# Altium footprint library Papilio_DUO.PcbLib: 39 footprints (part 2 of 3)
Each footprint in its own frame and in the unit in brackets; x right, y up, seen from the top. Pads: shape width x height; smd on the part's side, far side on the other; paste and mask are expansions set on the pad; w line width, h text height; cw(c..) or ccw(c..) is an arc to the next point about the centre after c.
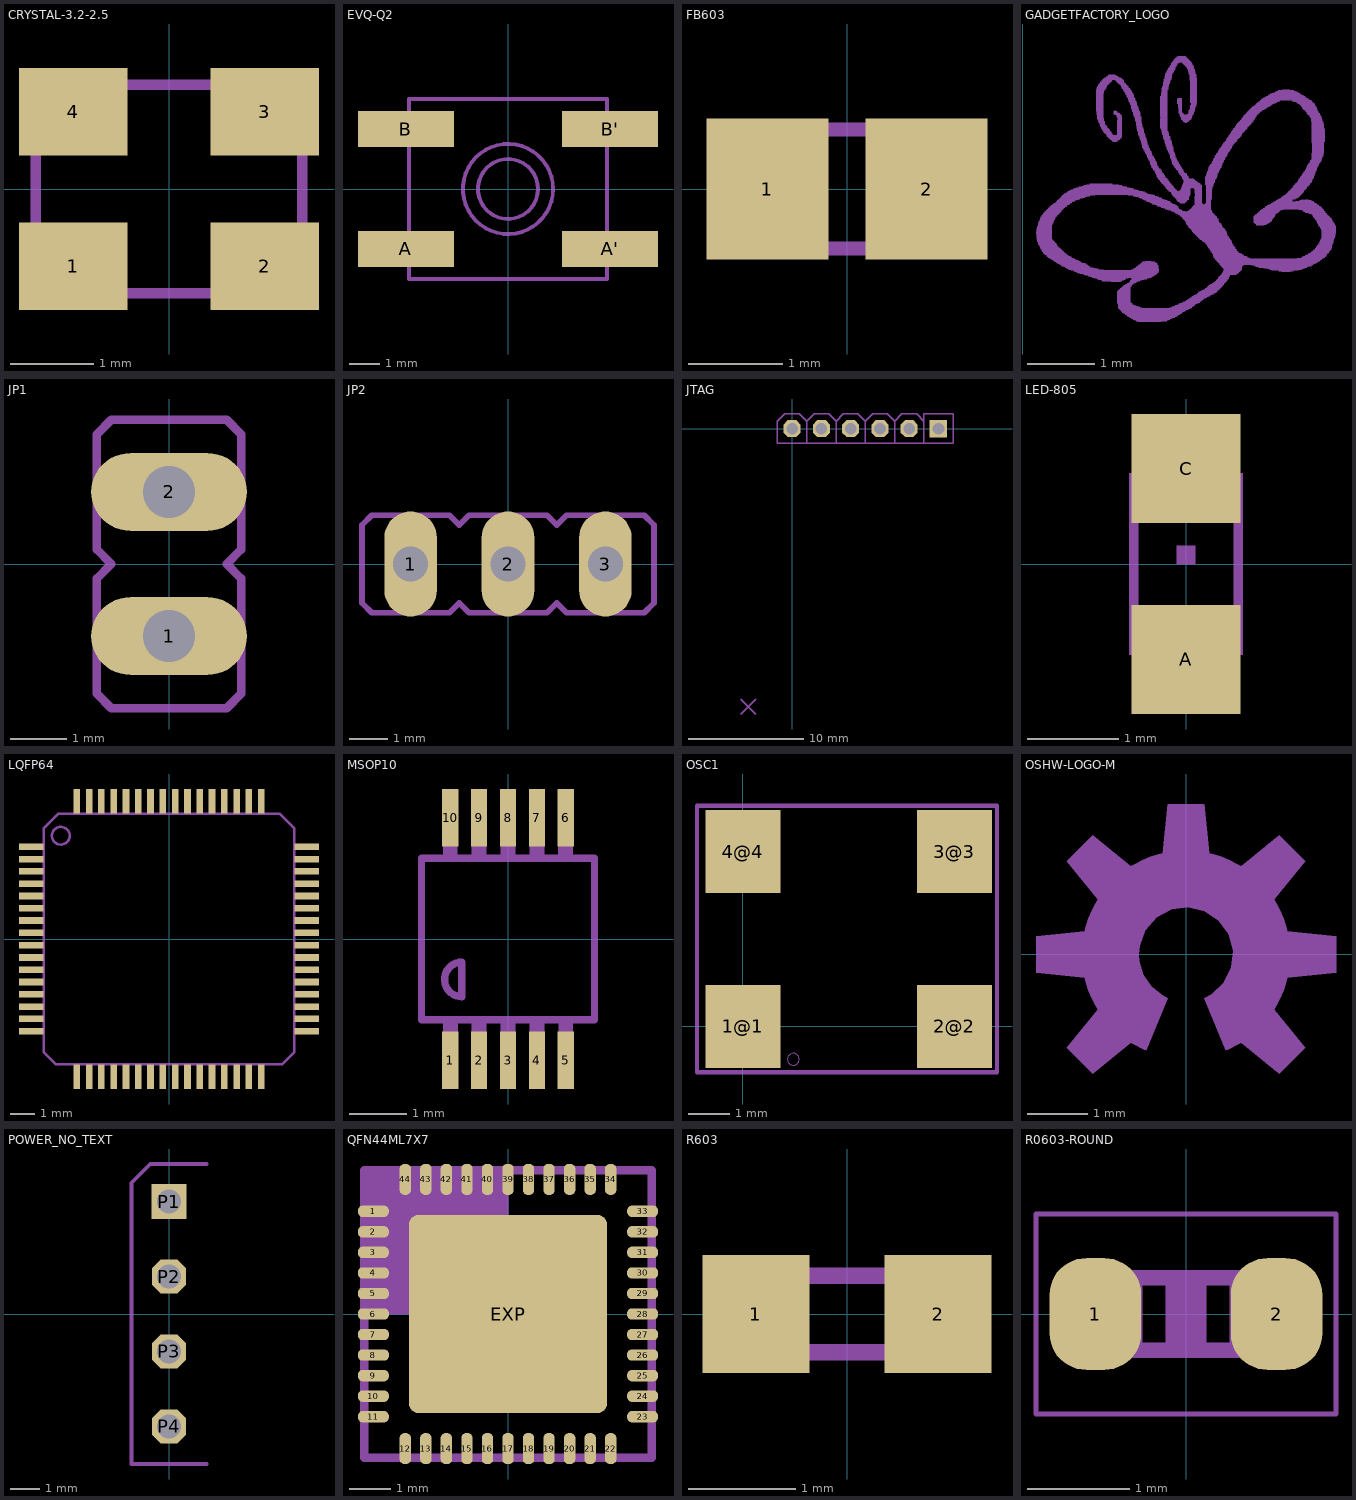
[diagram p1: the footprints below, top view; thin cyan lines are the x and y axes]

## CRYSTAL-3.2-2.5 [mm]
pads (4):
  rect 1.3x1.05 smd: 1(-1.15,-0.925) 2(1.15,-0.925) 3(1.15,0.925) 4(-1.15,0.925)
Mechanical 3:
  lines w0.127: -1.6,-1.25 -1.6,1.25 1.6,1.25 1.6,-1.25 -1.6,-1.25

## EVQ-Q2 [mm]
pads (4):
  rect 3.2x1.2 smd: A(-3.4,-2) A'(3.4,-2) B(-3.4,2) B'(3.4,2)
Mechanical 2:
  circle w0.127: c0,0 r1
  circle w0.127: c0,0 r1.503
  lines w0.127: -3.3,-3 -3.3,3 3.3,3 3.3,-3 -3.3,-3

## FB603 [mm]
pads (2):
  rect 1.3x1.5 smd: 1(-0.85,0) 2(0.85,0)
Mechanical 8:
  region: -1.067,-0.699 -1.067,0.702 -0.417,0.702 -0.417,-0.699
  region: 0.406,-0.699 0.406,0.702 1.056,0.702 1.056,-0.699
  lines w0.152: -0.41,-0.635 0.41,-0.635 ; -0.41,0.635 0.41,0.635

## GADGETFACTORY_LOGO [mm]
Mechanical 2:
  drawing of 1424 lines, arcs and shapes, not listed

## JP1 [mil]
pads (2):
  oval 108x54 hole 36: 1(0,-50) 2(0,50)
Mechanical 2:
  lines w6: -50,-90 -40,-100 40,-100 50,-90 50,-10 40,0 50,10 50,90 40,100 -40,100 -50,90 -50,10 -40,0 -50,-10 -50,-90
Mechanical 8:
  region: -12,-62 -12,-38 12,-38 12,-62
  region: -12,38 -12,62 12,62 12,38

## JP2 [mil]
pads (3):
  oval 54x108 hole 36: 1(-100,0) 2(0,0) 3(100,0)
Mechanical 2:
  lines w6: -150,-40 -140,-50 -60,-50 -50,-40 -40,-50 40,-50 50,-40 60,-50 140,-50 150,-40 150,40 140,50 60,50 50,40 40,50 -40,50 -50,40 -60,50 -140,50 -150,40 -150,-40
Mechanical 8:
  region: 88,-12 88,12 112,12 112,-12
  region: -12,-12 -12,12 12,12 12,-12
  region: -112,-12 -112,12 -88,12 -88,-12

## JTAG [mil]
pads (6):
  oct 58.09x58.09 hole 40: JTAG_GND(400,0) JTAG_TCK(300,0) JTAG_TDI(100,0) JTAG_TDO(200,0) JTAG_TMS(0,0)
  rect 60x60 hole 40: JTAG_REF(500,0)
Mechanical 2:
  lines w5: -175,-975 -150,-950 ; -175,-925 -150,-950 ; -125,-975 -150,-950 ; -125,-925 -150,-950 ; 50,-50 -50,-50 -50,25 -25,50 25,50 50,25 ; 50,-50 150,-50 ; 50,-50 50,25 ; 50,25 75,50 125,50 150,25 ; 150,-50 250,-50 ; 150,-50 150,25 ; 150,25 175,50 225,50 250,25 ; 250,-50 350,-50 ; 250,-50 250,25 ; 250,25 275,50 325,50 350,25 ; 350,-50 450,-50 ; 350,-50 350,25 ; 350,25 375,50 425,50 450,25 ; 450,-50 550,-50 550,50 450,50 450,25 ; 450,-50 450,25
  text "REF" at 532.51,87.19 h27.2
  text "GND" at 432.51,87.19 h27.2
  text "TCK" at 332.51,87.19 h27.2
  text "TDO" at 232.51,87.19 h27.2
  text "TDI" at 123.45,87.19 h27.2
  text "TMS" at 32.51,87.19 h27.2
Mechanical 8:
  region: -10,-10 -10,10 10,10 10,-10
  region: 190,-10 190,10 210,10 210,-10
  region: 90,-10 90,10 110,10 110,-10
  region: 290,-10 290,10 310,10 310,-10
  region: 490,-10 490,10 510,10 510,-10
  region: 390,-10 390,10 410,10 410,-10

## LED-805 [mm]
pads (2):
  rect 1.2x1.2 smd: A(0,-1.05) C(0,1.05)
Mechanical 2:
  region: -0.1,0 -0.1,0.2 0.1,0.2 0.1,0
Mechanical 8:
  circle w0.102: c-0.45,0.85 r0.103
  region: -0.625,0.925 -0.625,1 -0.3,1 -0.3,0.925
  region: -0.6,0.5 -0.6,0.8 -0.3,0.8 -0.3,0.5
  region: -0.2,-0.675 -0.2,-0.5 0.2,-0.5 0.2,-0.675
  region: -0.325,-0.75 -0.325,-0.5 -0.175,-0.5 -0.175,-0.75
  region: 0.175,-0.75 0.175,-0.5 0.325,-0.5 0.325,-0.75
  region: -0.625,-1 -0.625,-0.5 -0.3,-0.5 -0.3,-1
  region: 0.3,-1 0.3,-0.5 0.625,-0.5 0.625,-1
  region: -0.2,0.5 -0.2,0.675 0.2,0.675 0.2,0.5
  region: 0.175,0.5 0.175,0.75 0.325,0.75 0.325,0.5
  region: -0.325,0.5 -0.325,0.75 -0.175,0.75 -0.175,0.5
  region: 0.3,0.5 0.3,1 0.625,1 0.625,0.5
  lines w0.102: -0.575,-0.5 -0.575,0.925 ; -0.35,-0.925 cw(c0,-0.979) 0.35,-0.925 ; -0.35,0.925 ccw(c0,0.979) 0.35,0.925 ; 0.575,-0.525 0.575,0.525

## LQFP64 [mm]
pads (64):
  rect 1x0.27 smd: 1(-5.6,3.75) 2(-5.6,3.25) 3(-5.6,2.75) 4(-5.6,2.25) 5(-5.6,1.75) 6(-5.6,1.25) 7(-5.6,0.75) 8(-5.6,0.25) 9(-5.6,-0.25) 10(-5.6,-0.75) 11(-5.6,-1.25) 12(-5.6,-1.75) 13(-5.6,-2.25) 14(-5.6,-2.75) 15(-5.6,-3.25) 16(-5.6,-3.75) 33(5.6,-3.75) 34(5.6,-3.25) 35(5.6,-2.75) 36(5.6,-2.25) 37(5.6,-1.75) 38(5.6,-1.25) 39(5.6,-0.75) 40(5.6,-0.25) 41(5.6,0.25) 42(5.6,0.75) 43(5.6,1.25) 44(5.6,1.75) 45(5.6,2.25) 46(5.6,2.75) 47(5.6,3.25) 48(5.6,3.75)
  rect 0.27x1 smd: 17(-3.75,-5.6) 18(-3.25,-5.6) 19(-2.75,-5.6) 20(-2.25,-5.6) 21(-1.75,-5.6) 22(-1.25,-5.6) 23(-0.75,-5.6) 24(-0.25,-5.6) 25(0.25,-5.6) 26(0.75,-5.6) 27(1.25,-5.6) 28(1.75,-5.6) 29(2.25,-5.6) 30(2.75,-5.6) 31(3.25,-5.6) 32(3.75,-5.6) 49(3.75,5.6) 50(3.25,5.6) 51(2.75,5.6) 52(2.25,5.6) 53(1.75,5.6) 54(1.25,5.6) 55(0.75,5.6) 56(0.25,5.6) 57(-0.25,5.6) 58(-0.75,5.6) 59(-1.25,5.6) 60(-1.75,5.6) 61(-2.25,5.6) 62(-2.75,5.6) 63(-3.25,5.6) 64(-3.75,5.6)
Mechanical 2:
  circle w0.1: c-4.4,4.2 r0.36
  lines w0.1: -5.1,-4.6 -5.1,4.5 -4.5,5.1 4.5,5.1 5.1,4.5 5.1,-4.6 4.6,-5.1 -4.6,-5.1 -5.1,-4.6

## MSOP10 [mm]
pads (10):
  rect 0.28x1 smd: 1(-1,-2.1) 2(-0.5,-2.1) 3(0,-2.1) 4(0.5,-2.1) 5(1,-2.1) 6(1,2.1) 7(0.5,2.1) 8(0,2.1) 9(-0.5,2.1) 10(-1,2.1)
Mechanical 2:
  lines w0.127: -1.5,-1.4 -1.5,1.4 1.5,1.4 1.5,-1.4 -1.5,-1.4 ; -0.8,-1 cw(c-0.8,-0.7) -0.8,-0.4 -0.8,-1
Mechanical 8:
  region: -1.126,1.4 -1.126,2.4 -0.876,2.4 -0.876,1.4
  region: -0.626,1.4 -0.626,2.4 -0.376,2.4 -0.376,1.4
  region: -0.125,1.4 -0.125,2.4 0.124,2.4 0.124,1.4
  region: 0.374,1.4 0.374,2.4 0.624,2.4 0.624,1.4
  region: 0.875,1.4 0.875,2.4 1.124,2.4 1.124,1.4
  region: 0.876,-2.4 0.876,-1.4 1.126,-1.4 1.126,-2.4
  region: 0.376,-2.4 0.376,-1.4 0.626,-1.4 0.626,-2.4
  region: -0.124,-2.4 -0.124,-1.4 0.125,-1.4 0.125,-2.4
  region: -0.624,-2.4 -0.624,-1.4 -0.374,-1.4 -0.374,-2.4
  region: -1.124,-2.4 -1.124,-1.4 -0.875,-1.4 -0.875,-2.4

## OSC1 [mm]
pads (4):
  rect 1.8x2 smd: 1@1(0,0) 2@2(5.08,0) 3@3(5.08,4.2) 4@4(0,4.2)
Mechanical 2:
  circle w0: c1.212,-0.787 r0.142
  lines w0.1: -1.1,-1.1 6.1,-1.1 6.1,5.3 -1.1,5.3 -1.1,-1.1

## OSHW-LOGO-M [mm]
Mechanical 16:
  region: 0.658,-1.588 0.691,-1.574 0.755,-1.544 0.819,-1.512 0.881,-1.477 0.911,-1.458 1.539,-1.97 1.97,-1.539 1.458,-0.911 1.495,-0.85 1.561,-0.724 1.615,-0.592 1.659,-0.456 1.675,-0.387 2.481,-0.305 2.481,0.305 1.675,0.387 1.659,0.456 1.615,0.592 1.561,0.724 1.495,0.85 1.458,0.911 1.97,1.539 1.539,1.97 0.911,1.458 0.85,1.495 0.724,1.561 0.592,1.615 0.456,1.659 0.387,1.675 0.305,2.481 -0.305,2.481 -0.387,1.675 -0.456,1.659 -0.592,1.615 -0.724,1.561 -0.85,1.495 -0.911,1.458 -1.539,1.97 -1.97,1.539 -1.458,0.911 -1.495,0.85 -1.561,0.724 -1.615,0.592 -1.659,0.456 -1.675,0.387 -2.481,0.305 -2.481,-0.305 -1.675,-0.387 -1.659,-0.456 -1.615,-0.592 -1.561,-0.724 -1.495,-0.85 -1.458,-0.911 -1.97,-1.539 -1.539,-1.97 -0.911,-1.458 -0.881,-1.477 -0.819,-1.512 -0.755,-1.544 -0.691,-1.574 -0.658,-1.588 -0.299,-0.722 -0.402,-0.67 -0.579,-0.525 -0.706,-0.334 -0.773,-0.115 -0.781,0 -0.769,0.14 -0.67,0.402 -0.486,0.612 -0.239,0.744 0.038,0.78 0.311,0.717 0.543,0.561 0.706,0.334 0.779,0.064 0.751,-0.215 0.628,-0.465 0.423,-0.657 0.299,-0.722

## POWER_NO_TEXT [mil]
pads (4):
  rect 47.25x47.25 hole 31.5: P1(0,150)
  oct 45.75x45.75 hole 31.5: P2(0,50) P3(0,-50) P4(0,-150)
Mechanical 8:
  region: -10,-160 -10,-140 10,-140 10,-160
  region: -10,-60 -10,-40 10,-40 10,-60
  region: -10,40 -10,60 10,60 10,40
  region: -10,140 -10,160 10,160 10,140
Mechanical 16:
  lines w5: 50,-200 -50,-200 -50,175 -25,200 50,200

## QFN44ML7X7 [mm]
pads (45):
  rrect80% 0.75x0.275 smd: 1(-3.275,2.5) 2(-3.275,2) 3(-3.275,1.5) 4(-3.275,1) 5(-3.275,0.5) 6(-3.275,0) 7(-3.275,-0.5) 8(-3.275,-1) 9(-3.275,-1.5) 10(-3.275,-2) 11(-3.275,-2.5) 23(3.275,-2.5) 24(3.275,-2) 25(3.275,-1.5) 26(3.275,-1) 27(3.275,-0.5) 28(3.275,0) 29(3.275,0.5) 30(3.275,1) 31(3.275,1.5) 32(3.275,2) 33(3.275,2.5)
  rrect80% 0.275x0.75 smd: 12(-2.5,-3.275) 13(-2,-3.275) 14(-1.5,-3.275) 15(-1,-3.275) 16(-0.5,-3.275) 17(0,-3.275) 18(0.5,-3.275) 19(1,-3.275) 20(1.5,-3.275) 21(2,-3.275) 22(2.5,-3.275) 34(2.5,3.275) 35(2,3.275) 36(1.5,3.275) 37(1,3.275) 38(0.5,3.275) 39(0,3.275) 40(-0.5,3.275) 41(-1,3.275) 42(-1.5,3.275) 43(-2,3.275) 44(-2.5,3.275)
  rrect10% 4.826x4.826 smd paste-2.413 mask-2.413: EXP(0,0)
Bottom Paste:
  circle w1.27: c0,0 r0.635
Bottom Solder:
  circle w2.54: c0,0 r0.635
Mechanical 9:
  region: -3.5,0 -3.5,3.5 0,3.5 0,0
  lines w0.203: -3.5,-3.5 3.5,-3.5 3.5,3.5 -3.5,3.5 -3.5,-3.5

## R603 [mm]
pads (2):
  rect 1x1.1 smd: 1(-0.85,0) 2(0.85,0)
Mechanical 8:
  region: -0.838,-0.432 -0.838,0.432 -0.432,0.432 -0.432,-0.432
  region: 0.432,-0.432 0.432,0.432 0.838,0.432 0.838,-0.432
  lines w0.152: -0.432,-0.356 0.432,-0.356 ; -0.432,0.356 0.432,0.356

## R0603-ROUND [mil]
pads (2):
  rrect80% 35.37x43.31 smd: 1(-35,0) 2(35,0)
Mechanical 9:
  region: -33,-17 -33,17 -17,17 -17,-17
  region: 17,-17 17,17 33,17 33,-17
  lines w6: -17.01,-14.02 17.01,-14.02 ; -17.01,14.02 17.01,14.02
Mechanical 16:
  region: -7.87,-15.75 -7.87,15.75 7.87,15.75 7.87,-15.75
  lines w2: -57.99,-38.7 -57.99,38.7 57.99,38.7 57.99,-38.7 -57.99,-38.7